# Altium footprint library optic_fiber.PcbLib: 11 footprints
Each footprint in its own frame and in the unit in brackets; x right, y up, seen from the top. Pads: shape width x height; smd on the part's side, far side on the other; paste and mask are expansions set on the pad; w line width, h text height; cw(c..) or ccw(c..) is an arc to the next point about the centre after c.
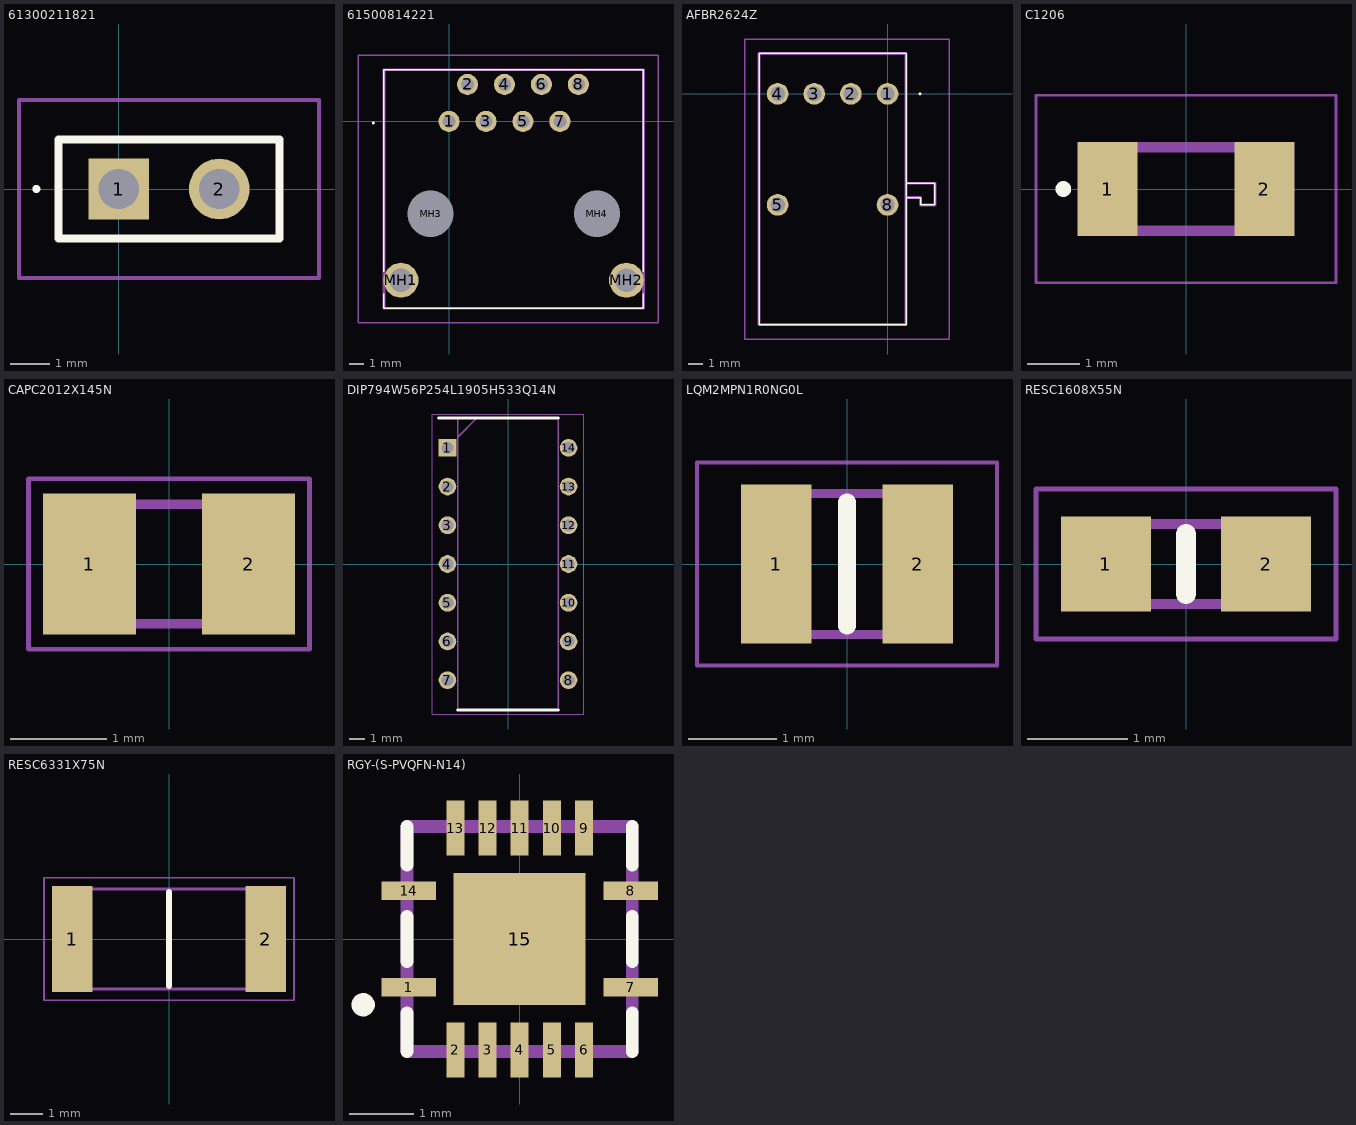
[diagram p0: the footprints below, top view; thin cyan lines are the x and y axes]

## 61300211821 [mm]
pads (2):
  rect 1.53x1.53 hole 1.02: 1(0,0)
  round 1.53 hole 1.02: 2(2.54,0)
Top Overlay:
  lines w0.1: -2.13,0 ccw(c-2.08,0) -2.03,0 ccw(c-2.08,0) -2.13,0
  lines w0.2: -1.52,-1.25 4.06,-1.25 4.06,1.25 -1.52,1.25 -1.52,-1.25
Mechanical 13:
  lines w0.1: -1.52,-1.25 4.06,-1.25 4.06,1.25 -1.52,1.25 -1.52,-1.25
Mechanical 15:
  lines w0.1: -2.52,-2.25 5.06,-2.25 5.06,2.25 -2.52,2.25 -2.52,-2.25
3D body "61300211821.stp": height 8.75, standoff -5, extent -1.52,-1.25 4.06,1.25

## 61500814221 [mm]
pads (12):
  round 1.45 hole 0.9: 1(0,0) 2(1.27,2.54) 3(2.54,0) 4(3.81,2.54) 5(5.08,0) 6(6.35,2.54) 7(7.62,0) 8(8.89,2.54)
  round 2.4 hole 1.6: MH1(-3.305,-10.92) MH2(12.195,-10.92)
  round 1.585 hole 3.17 unplated: MH3(-1.27,-6.35) MH4(10.16,-6.35)
Top Overlay:
  lines w0.1: -4.475,-11.85 -4.475,-12.85 13.365,-12.85 13.365,-11.85 ; -4.475,-10.35 -4.475,3.55 13.365,3.55 13.365,-10.35
  lines w0.102: -5.26,-0.105 ccw(c-5.209,-0.105) -5.158,-0.105 ccw(c-5.209,-0.105) -5.26,-0.105
Mechanical 13:
  lines w0.2: -4.475,-12.85 13.365,-12.85 13.365,3.55 -4.475,3.55 -4.475,-12.85
Mechanical 15:
  lines w0.1: -6.26,-13.85 14.365,-13.85 14.365,4.55 -6.26,4.55 -6.26,-13.85
3D body "61500814221.stp": height 13.6, standoff -4, extent -3.395,-17.16 12.405,4.04

## AFBR2624Z [mm]
pads (6):
  round 1.5 hole 1: 1(0,0) 2(-2.54,0) 3(-5.08,0) 4(-7.62,0) 5(-7.62,-7.7) 8(0,-7.7)
Top Overlay:
  lines w0.1: 1.29,-7.2 2.29,-7.2 2.29,-7.7 3.29,-7.7 3.29,-6.2 1.29,-6.2 ; -8.91,-16 1.29,-16 1.29,2.8 -8.91,2.8 -8.91,-16 ; 2.19,0 cw(c2.24,0) 2.29,0 cw(c2.24,0) 2.19,0
Mechanical 13:
  lines w0.2: 1.29,-7.2 2.29,-7.2 2.29,-7.7 3.29,-7.7 3.29,-6.2 1.29,-6.2 ; -8.91,-16 1.29,-16 1.29,2.8 -8.91,2.8 -8.91,-16
Mechanical 15:
  lines w0.1: -9.91,-17 4.29,-17 4.29,3.8 -9.91,3.8 -9.91,-17
3D body "AFBR-2624Z.stp": height 7.59, standoff -3.2, extent -8.91,-16.019 3.28,2.78

## C1206 [mm]
pads (2):
  rect 1.15x1.8 smd: 1(-1.5,0) 2(1.5,0)
Top Overlay:
  circle w0.2: c-2.35,0 r0.05
Mechanical 13:
  lines w0.2: -1.6,-0.8 1.6,-0.8 1.6,0.8 -1.6,0.8 -1.6,-0.8
Mechanical 15:
  lines w0.05: -2.875,-1.8 2.875,-1.8 2.875,1.8 -2.875,1.8 -2.875,-1.8
3D body "C1206C104K2RACTU.stp": height 1.75, standoff 0, extent -1.7,-0.9 1.7,0.9

## CAPC2012X145N [mm]
pads (2):
  rect 0.97x1.47 smd: 1(-0.83,0) 2(0.83,0)
Mechanical 13:
  lines w0.1: -1,-0.625 -1,0.625 1,0.625 1,-0.625 -1,-0.625
Mechanical 15:
  lines w0.05: -1.465,-0.89 -1.465,0.89 1.465,0.89 1.465,-0.89 -1.465,-0.89
3D body "GRM21BR61A106KE19L.stp": height 1.45, standoff 0, extent -1,-0.625 1,0.625

## DIP794W56P254L1905H533Q14N [mm]
pads (14):
  rect 1.159x1.159 hole 0.759: 1(-3.969,7.62)
  round 1.159 hole 0.759: 2(-3.969,5.08) 3(-3.969,2.54) 4(-3.969,0) 5(-3.969,-2.54) 6(-3.969,-5.08) 7(-3.969,-7.62) 8(3.969,-7.62) 9(3.969,-5.08) 10(3.969,-2.54) 11(3.969,0) 12(3.969,2.54) 13(3.969,5.08) 14(3.969,7.62)
Top Overlay:
  lines w0.2: -4.548,9.588 3.302,9.588 ; -3.302,-9.588 3.302,-9.588
Mechanical 13:
  lines w0.1: -3.302,8.318 -2.032,9.588 ; -3.302,-9.588 -3.302,9.588 3.302,9.588 3.302,-9.588 -3.302,-9.588
Mechanical 15:
  lines w0.05: -4.957,-9.838 -4.957,9.838 4.957,9.838 4.957,-9.838 -4.957,-9.838
3D body "LM324N_NOPB.stp": height 4.38, standoff -3.01, extent -4.254,-9.525 4.254,9.525

## LQM2MPN1R0NG0L [mm]
pads (2):
  rect 0.8x1.8 smd: 1(-0.8,0) 2(0.8,0)
Top Overlay:
  lines w0.2: 0,-0.7 0,0.7
Mechanical 13:
  lines w0.1: -1,-0.8 -1,0.8 1,0.8 1,-0.8 -1,-0.8
Mechanical 15:
  lines w0.05: -1.7,-1.15 -1.7,1.15 1.7,1.15 1.7,-1.15 -1.7,-1.15
3D body "LQM2MPN1R0NG0L.stp": height 0.9, standoff 0, extent -1,-0.8 1,0.8

## PCBComponent_1 [mm]

## RESC1608X55N [mm]
pads (2):
  rect 0.9x0.95 smd: 1(-0.8,0) 2(0.8,0)
Top Overlay:
  lines w0.2: 0,-0.3 0,0.3
Mechanical 13:
  lines w0.1: -0.8,-0.4 -0.8,0.4 0.8,0.4 0.8,-0.4 -0.8,-0.4
Mechanical 15:
  lines w0.05: -1.5,-0.75 -1.5,0.75 1.5,0.75 1.5,-0.75 -1.5,-0.75
3D body "CR0603-FX-1003HLF.stp": height 0.55, standoff 0, extent -0.8,-0.4 0.8,0.4

## RESC6331X75N [mm]
pads (2):
  rect 1.25x3.3 smd: 1(-3,0) 2(3,0)
Top Overlay:
  lines w0.2: 0,-1.45 0,1.45
Mechanical 13:
  lines w0.1: -3.15,-1.55 -3.15,1.55 3.15,1.55 3.15,-1.55 -3.15,-1.55
Mechanical 15:
  lines w0.05: -3.875,-1.9 -3.875,1.9 3.875,1.9 3.875,-1.9 -3.875,-1.9
3D body "CR2512-JW-511ELF.stp": height 0.75, standoff 0, extent -3.15,-1.55 3.15,1.55

## RGY-(S-PVQFN-N14) [mm]
pads (15):
  rect 0.85x0.28 smd: 1(-1.725,-0.75) 7(1.725,-0.75) 8(1.725,0.75) 14(-1.725,0.75)
  rect 0.28x0.85 smd: 2(-1,-1.725) 3(-0.5,-1.725) 4(0,-1.725) 5(0.5,-1.725) 6(1,-1.725) 9(1,1.725) 10(0.5,1.725) 11(0,1.725) 12(-0.5,1.725) 13(-1,1.725)
  rect 2.05x2.05 smd: 15(0,0)
Top Overlay:
  circle w0.2: c-2.432,-1.022 r0.081
  lines w0.2: -1.75,-1.75 -1.75,-1.15 ; -1.75,-0.35 -1.75,0.35 ; -1.75,1.15 -1.75,1.75 ; 1.75,-1.75 1.75,-1.15 ; 1.75,-0.35 1.75,0.35 ; 1.75,1.15 1.75,1.75
Mechanical 13:
  lines w0.2: -1.75,-1.75 -1.75,1.75 1.75,1.75 1.75,-1.75 -1.75,-1.75
3D body "SN74LVC14ARGYR.stp": height 0.97, standoff 0, extent -1.75,-1.75 1.75,1.75